# Altium footprint library IRFtemp.PcbLib: 8 footprints
Each footprint in its own frame and in the unit in brackets; x right, y up, seen from the top. Pads: shape width x height; smd on the part's side, far side on the other; paste and mask are expansions set on the pad; w line width, h text height; cw(c..) or ccw(c..) is an arc to the next point about the centre after c.
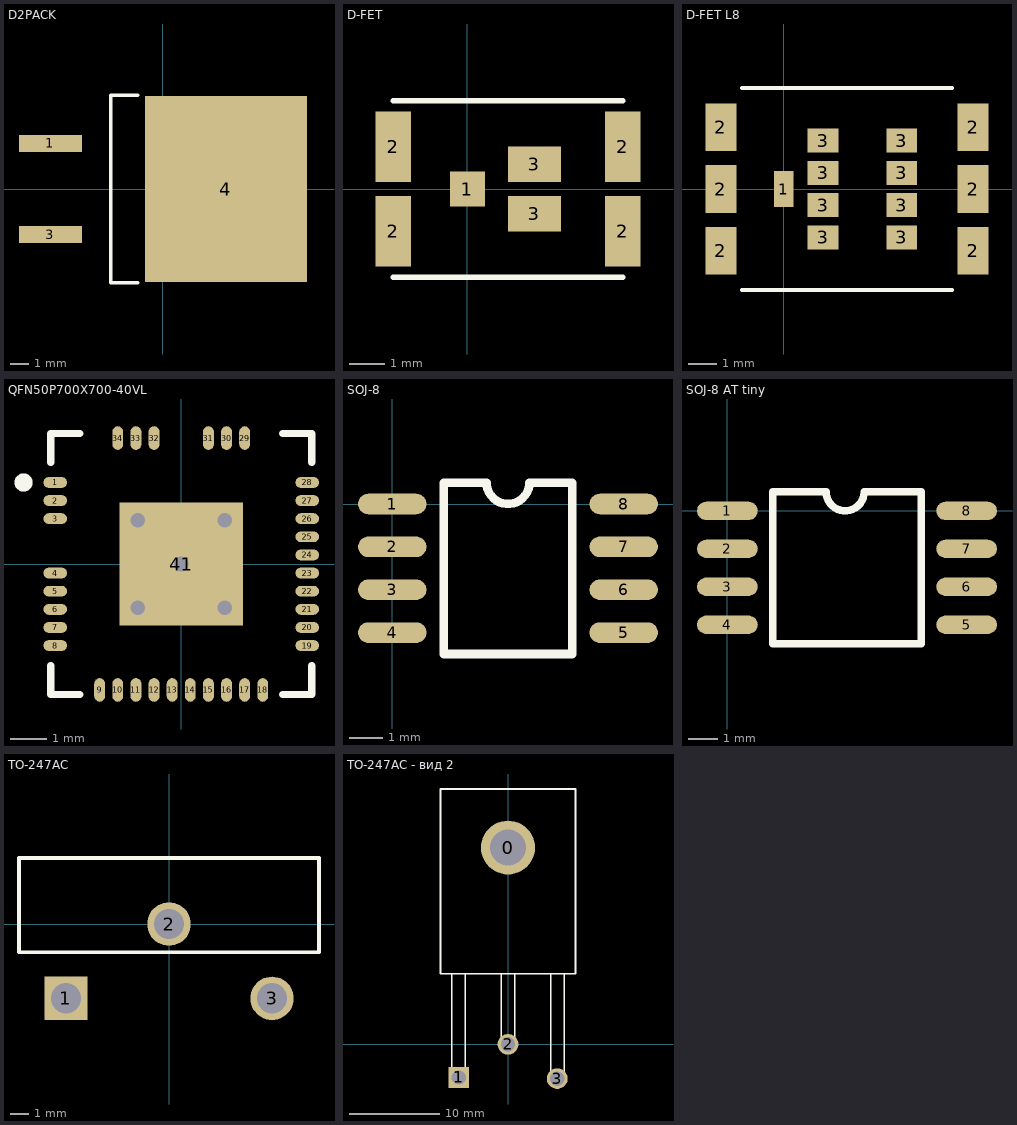
[diagram p0: the footprints below, top view; thin cyan lines are the x and y axes]

## D2PACK [mm] "D2-PAK, 4-Leads, Body 9.2x10.2mm, Pitch 2.54mm, Lead Span 15.4mm, IPC High Density"
height 4.6
pads (3):
  rect 3.5x0.95 smd: 1(-6.25,2.54) 3(-6.25,-2.54)
  rect 9x10.35 smd: 4(3.5,0)
Top Overlay:
  lines w0.2: -1.4,-5.2 -2.9,-5.2 -2.9,5.2 -1.4,5.2
Mechanical 13:
  lines w0.1: -2.9,-5.2 -2.9,5.2
3D body: height 4.6, standoff 0, extent -2.9,-5.2 6.5,5.2

## D-FET [mm]
pads (7):
  rect 1x1 smd: 1(0,0)
  rect 1x2 smd: 2(-2.1,-1.2) 2(-2.1,1.2) 2(4.4,-1.2) 2(4.4,1.2)
  rect 1.5x1 smd: 3(1.9,-0.7) 3(1.9,0.7)
Top Overlay:
  lines w0.15: -2.1,-2.5 4.4,-2.5 ; -2.1,2.5 4.4,2.5
3D body: height 0.6, standoff 0.1, extent -2.1,-2.5 4.4,2.5

## D-FET L8 [mm]
pads (15):
  rect 0.7x1.3 smd: 1(0,0)
  rect 1.1x1.7 smd: 2(-2.25,-2.2) 2(-2.25,0) 2(-2.25,2.2) 2(6.75,-2.2) 2(6.75,0) 2(6.75,2.2)
  rect 1.1x0.85 smd: 3(1.4,-1.725) 3(1.4,-0.575) 3(1.4,0.575) 3(1.4,1.725) 3(4.2,-1.725) 3(4.2,-0.575) 3(4.2,0.575) 3(4.2,1.725)
Top Overlay:
  lines w0.15: -1.5,-3.6 6,-3.6 ; -1.5,3.6 6,3.6
3D body: height 0.6, standoff 0.1, extent -2.3,-3.6 6.8,3.6

## QFN50P700X700-40VL [mm] "QFN, 40-Leads, Body 7x7mm, Pitch 0.5mm, IPC High Density"
height 1
pads (35):
  oval 0.65x0.3 smd: 1(-3.475,2.25) 2(-3.475,1.75) 3(-3.475,1.25) 4(-3.475,-0.25) 5(-3.475,-0.75) 6(-3.475,-1.25) 7(-3.475,-1.75) 8(-3.475,-2.25) 19(3.475,-2.25) 20(3.475,-1.75) 21(3.475,-1.25) 22(3.475,-0.75) 23(3.475,-0.25) 24(3.475,0.25) 25(3.475,0.75) 26(3.475,1.25) 27(3.475,1.75) 28(3.475,2.25)
  oval 0.3x0.65 smd: 9(-2.25,-3.475) 10(-1.75,-3.475) 11(-1.25,-3.475) 12(-0.75,-3.475) 13(-0.25,-3.475) 14(0.25,-3.475) 15(0.75,-3.475) 16(1.25,-3.475) 17(1.75,-3.475) 18(2.25,-3.475) 29(1.75,3.475) 30(1.25,3.475) 31(0.75,3.475) 32(-0.75,3.475) 33(-1.25,3.475) 34(-1.75,3.475)
  rect 3.4x3.4 smd: 41(0,0)
via 1.2,-1.2 diameter 0.8 hole 0.4
via -1.2,-1.2 diameter 0.8 hole 0.4
via 0,0 diameter 0.8 hole 0.4
via 1.2,1.2 diameter 0.8 hole 0.4
via -1.2,1.2 diameter 0.8 hole 0.4
Top Overlay:
  circle w0.25: c-4.35,2.25 r0.125
  lines w0.2: -3.6,-2.8 -3.6,-3.6 -2.8,-3.6 ; -3.6,2.8 -3.6,3.6 -2.8,3.6 ; 2.8,-3.6 3.6,-3.6 3.6,-2.8 ; 2.8,3.6 3.6,3.6 3.6,2.8
Mechanical 15:
  lines w0.1: -0.5,0 0.5,0 ; 0,-0.5 0,0.5
3D body: height 1, standoff 0, extent -3.575,-3.575 3.575,3.575

## SOJ-8 [mil]
pads (8):
  oval 80x24 smd: 1(0,0) 2(0,-50) 3(0,-100) 4(0,-150) 5(270,-150) 6(270,-100) 7(270,-50) 8(270,0)
Top Overlay:
  lines w10: 60,-175 210,-175 210,25 160,25 cw(c135,25) 110,25 60,25 60,-175
3D body: height 74.5, standoff -0.39, extent 10.22,-174 259.78,23

## SOJ-8 AT tiny [mil]
pads (8):
  oval 80x24 smd: 1(0,0) 2(0,-50) 3(0,-100) 4(0,-150) 5(315,-150) 6(315,-100) 7(315,-50) 8(315,0)
Top Overlay:
  lines w10: 60,-175 255,-175 255,25 180,25 cw(c155,25) 130,25 60,25 60,-175

## TO-247AC [mm] "SIP with Mounting Hole; 3 Leads; Body 20 x 15.6 x 5 mm (typ); Pitch 5.45 mm"
height 24.6
pads (3):
  rect 2.3x2.3 hole 1.6: 1(-5.461,-3.937)
  round 2.3 hole 1.6: 2(0,0) 3(5.461,-3.937)
Top Overlay:
  lines w0.2: -7.95,-1.5 -7.95,3.5 7.95,3.5 7.95,-1.5 -7.95,-1.5
3D body: height 32, standoff -9.07, extent -7.975,-1.524 7.975,3.506

## TO-247AC - вид 2 [mm] "SIP with Mounting Hole; 3 Leads; Body 20 x 15.6 x 5 mm (typ); Pitch 5.45 mm"
height 24.6
pads (4):
  round 6 hole 4 mask+0.102: 0(0,21.817)
  rect 2.3x2.3 hole 1.6: 1(-5.461,-3.683)
  round 2.3 hole 1.6: 2(0,0) 3(5.461,-3.81)
Top Overlay:
  lines w0.2: -6.25,-3.683 -6.25,7.817 ; -4.75,-3.683 -4.75,7.817 ; -0.75,0 -0.75,7.817 ; 0.75,0 0.75,7.817 ; 4.75,-3.683 4.75,7.817 ; 6.25,-3.683 6.25,7.817 ; -7.5,7.817 7.5,7.817 7.5,28.317 -7.5,28.317 -7.5,7.817
3D body: height 5.03, standoff 0, extent -8.001,-13.55 7.949,27.52